# Altium footprint library Daxxn_Connectors.PcbLib: 65 footprints (part 2 of 5)
Each footprint in its own frame and in the unit in brackets; x right, y up, seen from the top. Pads: shape width x height; smd on the part's side, far side on the other; paste and mask are expansions set on the pad; w line width, h text height; cw(c..) or ccw(c..) is an arc to the next point about the centre after c.
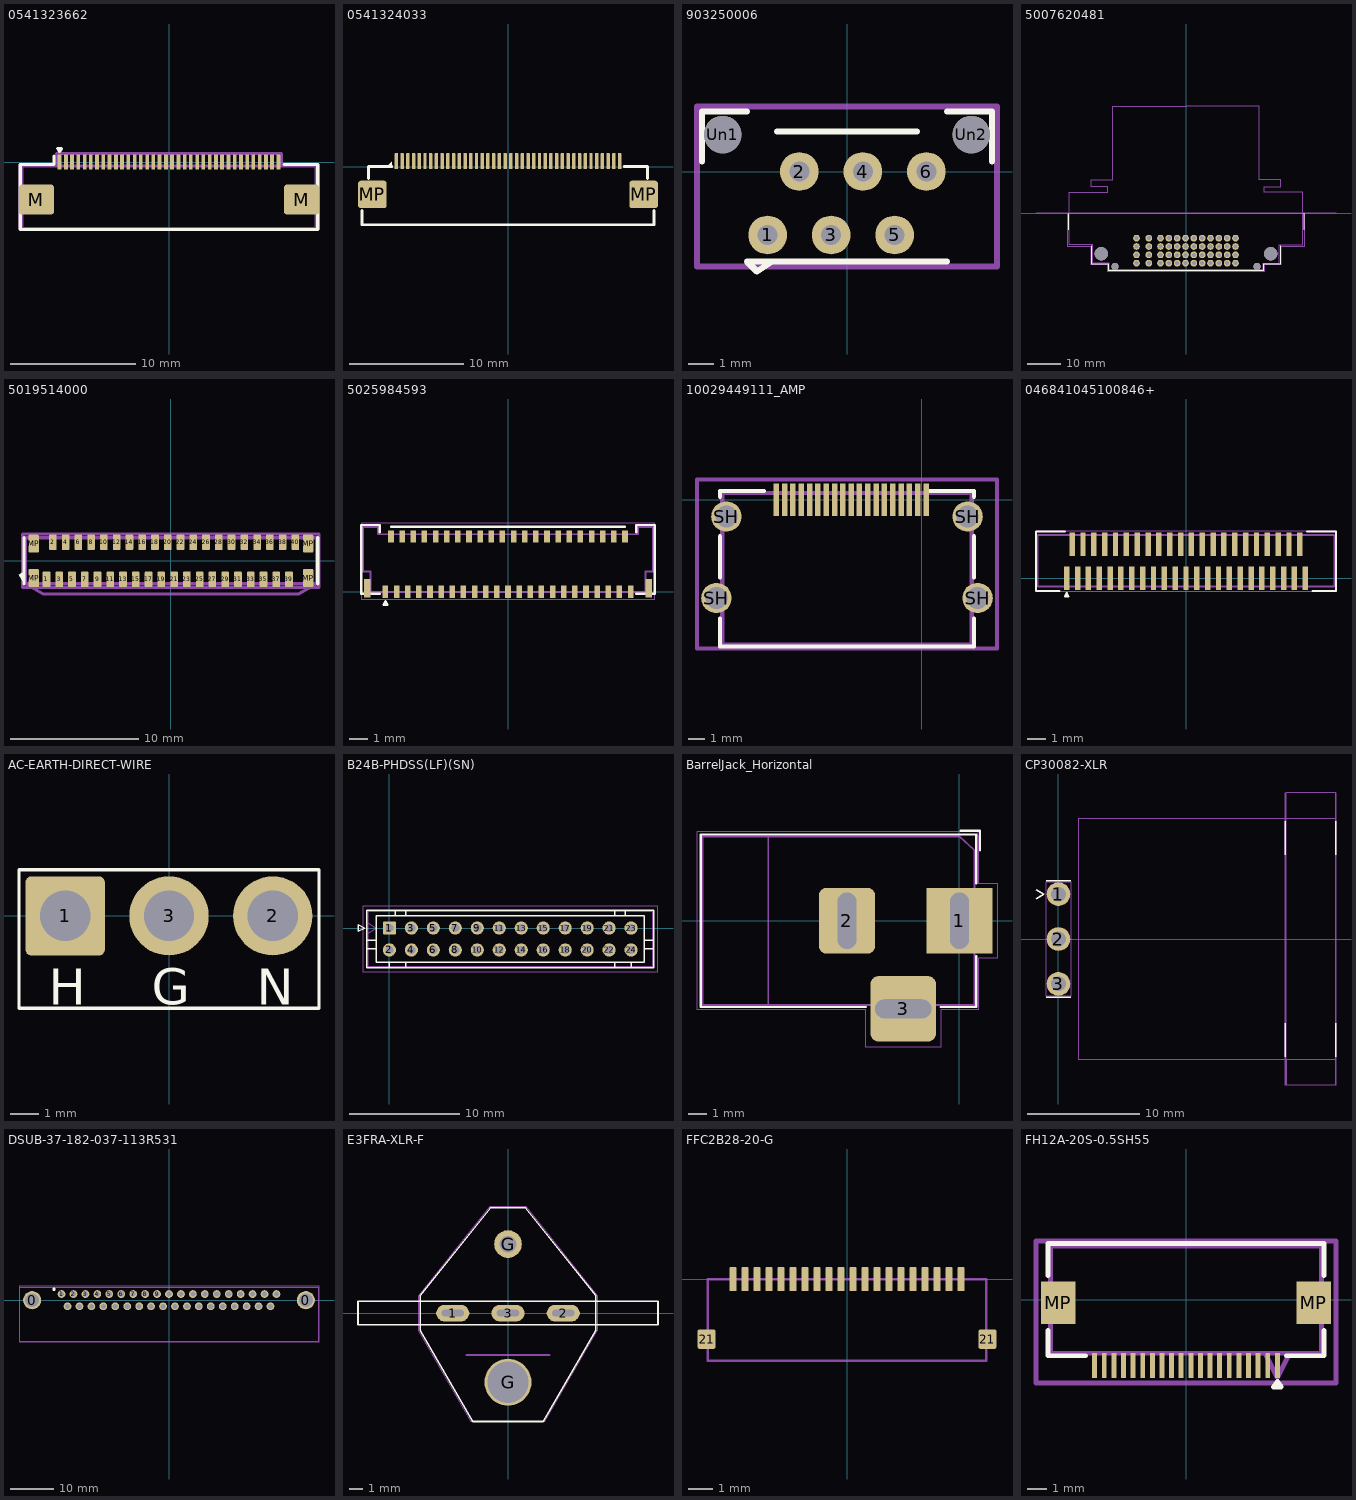
[diagram p1: the footprints below, top view; thin cyan lines are the x and y axes]

## 0541323662 [mm]
pads (38):
  rrect20% 0.3x1.2 smd: 1(-8.75,0) 2(-8.25,0) 3(-7.75,0) 4(-7.25,0) 5(-6.75,0) 6(-6.25,0) 7(-5.75,0) 8(-5.25,0) 9(-4.75,0) 10(-4.25,0) 11(-3.75,0) 12(-3.25,0) 13(-2.75,0) 14(-2.25,0) 15(-1.75,0) 16(-1.25,0) 17(-0.75,0) 18(-0.25,0) 19(0.25,0) 20(0.75,0) 21(1.25,0) 22(1.75,0) 23(2.25,0) 24(2.75,0) 25(3.25,0) 26(3.75,0) 27(4.25,0) 28(4.75,0) 29(5.25,0) 30(5.75,0) 31(6.25,0) 32(6.75,0) 33(7.25,0) 34(7.75,0) 35(8.25,0) 36(8.75,0)
  rrect20% 2.8x2.4 smd: M(-10.6,-3) M(10.6,-3)
F.SilkS:
  lines w0.254: -9.2,0.5 -9.2,-0.2 -11.9,-0.2 -11.9,-5.4 11.9,-5.4 11.9,-0.2 9.2,-0.2 ; -8.9,1.1 -8.75,0.85 -8.6,1.1 -8.9,1.1
F.CrtYd:
  lines w0.254: -11.9,-5.3 -11.9,-0.2 -9,-0.2 -9,0.7 9,0.7 9,-0.2 11.9,-0.2 11.9,-5.3 -11.9,-5.3
F.Fab:
  lines w0.254: -11.75,-5.3 -11.75,-0.3 11.75,-0.3 11.75,-5.3 -11.75,-5.3
  text "'.Designator'" at -2.073,-1.57 h0.5

## 0541324033 [mm]
pads (42):
  rrect20% 0.3x1.4 smd: 1(-9.75,0.5) 2(-9.25,0.5) 3(-8.75,0.5) 4(-8.25,0.5) 5(-7.75,0.5) 6(-7.25,0.5) 7(-6.75,0.5) 8(-6.25,0.5) 9(-5.75,0.5) 10(-5.25,0.5) 11(-4.75,0.5) 12(-4.25,0.5) 13(-3.75,0.5) 14(-3.25,0.5) 15(-2.75,0.5) 16(-2.25,0.5) 17(-1.75,0.5) 18(-1.25,0.5) 19(-0.75,0.5) 20(-0.25,0.5) 21(0.25,0.5) 22(0.75,0.5) 23(1.25,0.5) 24(1.75,0.5) 25(2.25,0.5) 26(2.75,0.5) 27(3.25,0.5) 28(3.75,0.5) 29(4.25,0.5) 30(4.75,0.5) 31(5.25,0.5) 32(5.75,0.5) 33(6.25,0.5) 34(6.75,0.5) 35(7.25,0.5) 36(7.75,0.5) 37(8.25,0.5) 38(8.75,0.5) 39(9.25,0.5) 40(9.75,0.5)
  rrect20% 2.5x2.4 smd: MP(-11.85,-2.4) MP(11.85,-2.4)
F.SilkS:
  region: -10.15,0.05 -10.55,0.05 -10.15,0.45
  lines w0.254: -12.75,-3.8 -12.75,-5.05 12.75,-5.05 12.75,-3.8 ; -12.2,-1 -12.2,0.05 -10.15,0.05 ; 10.15,0.05 12.2,0.05 12.2,-1
F.Fab:
  text "'.Designator'" at -1.037,-1.135 h0.25

## 903250006 [mm]
pads (8):
  round 1.55 hole 0.8: 1(-3.175,-2.54) 2(-1.905,0) 3(-0.635,-2.54) 4(0.635,0) 5(1.905,-2.54) 6(3.175,0)
  round 1.5 hole 1.5: Un1(-4.975,1.48) Un2(4.975,1.48)
F.SilkS:
  lines w0.254: -5.8,0.4 -5.8,2.4 -4,2.4 ; -3,-3.6 -3.6,-4 -4,-3.6 4,-3.6 ; -2.8,1.6 2.8,1.6 ; 4,2.4 5.8,2.4 5.8,0.4
F.CrtYd:
  lines w0.254: -6,-3.8 -6,2.6 6,2.6 6,-3.8 -6,-3.8
F.Fab:
  text "'.Designator'" at -4.047,5.76 h1

## 5007620481 [mm]
pads (52):
  round 2 hole 1.2: A1(14.85,-15) A2(14.85,-12.5) A3(14.85,-10) A4(14.85,-7.5) B1(12.35,-15) B2(12.35,-12.5) B3(12.35,-10) B4(12.35,-7.5) C1(9.85,-15) C2(9.85,-12.5) C3(9.85,-10) C4(9.85,-7.5) D1(7.35,-15) D2(7.35,-12.5) D3(7.35,-10) D4(7.35,-7.5) E1(4.85,-15) E2(4.85,-12.5) E3(4.85,-10) E4(4.85,-7.5) F1(2.35,-15) F2(2.35,-12.5) F3(2.35,-10) F4(2.35,-7.5) G1(-0.15,-15) G2(-0.15,-12.5) G3(-0.15,-10) G4(-0.15,-7.5) H1(-2.65,-15) H2(-2.65,-12.5) H3(-2.65,-10) H4(-2.65,-7.5) J1(-5.15,-15) J2(-5.15,-12.5) J3(-5.15,-10) J4(-5.15,-7.5) K1(-7.65,-15) K2(-7.65,-12.5) K3(-7.65,-10) K4(-7.65,-7.5) L1(-11.15,-15) L2(-11.15,-12.5) L3(-11.15,-10) L4(-11.15,-7.5) M1(-14.85,-15) M2(-14.85,-12.5) M3(-14.85,-10) M4(-14.85,-7.5)
  round 4 hole 4: Un1(-25.4,-12.15) Un4(25.4,-12.15)
  round 2.2 hole 2.2: Un2(-21.3,-16) Un3(21.3,-16)
F.SilkS:
  lines w0.254: -35.25,-5 -35.25,-0.25 ; -28.25,-9.75 -28.25,-15.25 -23.25,-15.25 -23.25,-17.25 23.25,-17.25 23.25,-15.25 28.25,-15.25 28.25,-9.75 ; 35.25,-5 35.25,-0.25
F.CrtYd:
  lines w0.254: -35.5,-10 -35.5,0 35.5,0 35.5,-10 28.5,-10 28.5,-15.5 23.5,-15.5 23.5,-17.5 -23.5,-17.5 -23.5,-15.5 -28.5,-15.5 -28.5,-10 -35.5,-10
F.Fab:
  lines w0.254: -34.95,-9.5 -34.95,6.2 -23.5,6.2 -23.5,8 -28.5,8 -28.5,10 -22,10 -22,32 0,32 22,32 22,10 28.5,10 28.5,8 23.5,8 23.5,6.2 34.95,6.2 34.95,-9.5 28,-9.5 28,-15 23,-15 23,-17 -23,-17 -23,-15 -28,-15 -28,-9.5 -34.95,-9.5
  text "'.Designator'" at -4.047,-6.34 h1
Cmts.User:
  lines w0.254: -45,0 45,0
  text "PCB EDGE" at -3.599,-1.7 h1

## 5019514000 [mm]
pads (44):
  rrect20% 0.6x1.2 smd: 1(-9.75,-1.45) 2(-9.25,1.45) 3(-8.75,-1.45) 4(-8.25,1.45) 5(-7.75,-1.45) 6(-7.25,1.45) 7(-6.75,-1.45) 8(-6.25,1.45) 9(-5.75,-1.45) 10(-5.25,1.45) 11(-4.75,-1.45) 12(-4.25,1.45) 13(-3.75,-1.45) 14(-3.25,1.45) 15(-2.75,-1.45) 16(-2.25,1.45) 17(-1.75,-1.45) 18(-1.25,1.45) 19(-0.75,-1.45) 20(-0.25,1.45) 21(0.25,-1.45) 22(0.75,1.45) 23(1.25,-1.45) 24(1.75,1.45) 25(2.25,-1.45) 26(2.75,1.45) 27(3.25,-1.45) 28(3.75,1.45) 29(4.25,-1.45) 30(4.75,1.45) 31(5.25,-1.45) 32(5.75,1.45) 33(6.25,-1.45) 34(6.75,1.45) 35(7.25,-1.45) 36(7.75,1.45) 37(8.25,-1.45) 38(8.75,1.45) 39(9.25,-1.45) 40(9.75,1.45)
  rrect20% 0.8x1.4 smd: MP(-10.75,-1.35) MP(-10.75,1.35) MP(10.75,-1.35) MP(10.75,1.35)
F.SilkS:
  region: -11.5,-1.8 -11.9,-1.1 -11.5,-0.8
  lines w0.254: -11.5,-1.8 -11.5,1.8 ; 11.5,-1.8 11.5,1.8
F.CrtYd:
  lines w0.254: -11.6,-2.1 -11.6,2.1 11.6,2.1 11.6,-2.1 -11.6,-2.1
F.Fab:
  lines w0.254: -11.4,-1.8 -10,-2.6 10,-2.6 11.4,-1.8 ; -11.4,-1.8 -11.4,1.8 11.4,1.8 11.4,-1.8 ; -11.4,-1.8 11.4,-1.8
  text "'.Designator'" at -1.037,0.015 h0.25

## 5025984593 [mm]
pads (47):
  rect 0.3x0.67 smd: 1(-6.6,0) 2(-6.3,2.98) 3(-6,0) 4(-5.7,2.98) 5(-5.4,0) 6(-5.1,2.98) 7(-4.8,0) 8(-4.5,2.98) 9(-4.2,0) 10(-3.9,2.98) 11(-3.6,0) 12(-3.3,2.98) 13(-3,0) 14(-2.7,2.98) 15(-2.4,0) 16(-2.1,2.98) 17(-1.8,0) 18(-1.5,2.98) 19(-1.2,0) 20(-0.9,2.98) 21(-0.6,0) 22(-0.3,2.98) 23(0,0) 24(0.3,2.98) 25(0.6,0) 26(0.9,2.98) 27(1.2,0) 28(1.5,2.98) 29(1.8,0) 30(2.1,2.98) 31(2.4,0) 32(2.7,2.98) 33(3,0) 34(3.3,2.98) 35(3.6,0) 36(3.9,2.98) 37(4.2,0) 38(4.5,2.98) 39(4.8,0) 40(5.1,2.98) 41(5.4,0) 42(5.7,2.98) 43(6,0) 44(6.3,2.98) 45(6.6,0)
  rect 0.35x1 smd: M(-7.575,0.2) M(7.575,0.2)
F.SilkS:
  lines w0.12: -6.9,-0.1 -7.9,-0.1 -7.9,3.6 -6.9,3.6 -6.9,3.2 ; -6.3,3.5 6.3,3.5 ; 6.9,-0.1 7.9,-0.1 7.9,3.6 6.9,3.6 6.9,3.2 ; -6.7,-0.7 -6.6,-0.5 -6.5,-0.7 -6.7,-0.7
F.CrtYd:
  lines w0.05: -7.9,-0.4 -7.9,3.7 7.9,3.7 7.9,-0.4 -7.9,-0.4
F.Fab:
  lines w0.1: -7.8,1.1 -7.4,1.1 -7.4,0 0,0 7.4,0 7.4,1.1 7.8,1.1 7.8,3.5 7,3.5 7,3.1 -7,3.1 -7,3.5 -7.8,3.5 -7.8,1.1
  text "'.Designator'" at -1.037,1.915 h0.25
Cmts.User:
  text "CABLE RELEIF" at -2.401,-2.175 h0.5

## 10029449111_AMP [mil]
pads (23):
  rect 13x77 smd: 1(9.84,0) 2(-9.84,0) 3(-29.53,0) 4(-49.21,0) 5(-68.9,0) 6(-88.58,0) 7(-108.27,0) 8(-127.95,0) 9(-147.64,0) 10(-167.32,0) 11(-187.01,0) 12(-206.69,0) 13(-226.38,0) 14(-246.06,0) 15(-265.75,0) 16(-285.43,0) 17(-305.12,0) 18(-324.8,0) 19(-344.49,0)
  round 72 hole 52: SH(-486.22,-232.28) SH(-462.6,-39.37) SH(108.27,-39.37) SH(131.89,-232.28)
F.SilkS:
  lines w10: -477.67,-280.63 -477.67,-346.99 123.33,-346.99 123.33,-280.63 ; -477.67,-183.93 -477.67,-86.1 ; -477.67,7.36 -477.67,21.01 -373.93,21.01 ; 19.6,21.01 123.33,21.01 123.33,7.36 ; 123.33,-183.93 123.33,-86.1
F.CrtYd:
  lines w10: -532.22,-351.99 -532.22,48.5 177.89,48.5 177.89,-351.99 -532.22,-351.99
F.Fab:
  lines w10: -472.67,-341.99 -472.67,16.01 118.33,16.01 118.33,-341.99 -472.67,-341.99
  text "'.Designator'" at -217.98,-60.44 h9.84

## 046841045100846+ [mm]
pads (45):
  rect 0.3x1.3 smd: 1(-6.6,0) 2(-6.3,1.9) 3(-6,0) 4(-5.7,1.9) 5(-5.4,0) 6(-5.1,1.9) 7(-4.8,0) 8(-4.5,1.9) 9(-4.2,0) 10(-3.9,1.9) 11(-3.6,0) 12(-3.3,1.9) 13(-3,0) 14(-2.7,1.9) 15(-2.4,0) 16(-2.1,1.9) 17(-1.8,0) 18(-1.5,1.9) 19(-1.2,0) 20(-0.9,1.9) 21(-0.6,0) 22(-0.3,1.9) 23(0,0) 24(0.3,1.9) 25(0.6,0) 26(0.9,1.9) 27(1.2,0) 28(1.5,1.9) 29(1.8,0) 30(2.1,1.9) 31(2.4,0) 32(2.7,1.9) 33(3,0) 34(3.3,1.9) 35(3.6,0) 36(3.9,1.9) 37(4.2,0) 38(4.5,1.9) 39(4.8,0) 40(5.1,1.9) 41(5.4,0) 42(5.7,1.9) 43(6,0) 44(6.3,1.9) 45(6.6,0)
F.SilkS:
  lines w0.12: -7,-0.7 -8.3,-0.7 -8.3,2.6 -6.7,2.6 ; 6.7,2.6 8.3,2.6 8.3,-0.7 7,-0.7 ; -6.7,-1 -6.5,-1 -6.6,-0.8 -6.7,-1
F.CrtYd:
  lines w0.05: -8.3,-0.7 -8.3,2.6 8.3,2.6 8.3,-0.7 -8.3,-0.7
F.Fab:
  lines w0.1: -8.2,-0.45 -8.2,2.4 8.2,2.4 8.2,-0.45 -8.2,-0.45
  text "'.Designator'" at -6.662,0.665 h0.25

## AC-EARTH-DIRECT-WIRE [mm]
pads (3):
  rrect15% 2.75x2.75 hole 1.75: 1(-3.6,0)
  round 2.75 hole 1.75: 2(3.6,0) 3(0,0)
F.SilkS:
  lines w0.12: -5.2,-3.2 5.2,-3.2 5.2,1.6 -5.2,1.6 -5.2,-3.2
  text "G" at -0.596,-3.075 h1.25
  text "H" at -4.167,-3.075 h1.25
  text "N" at 3.033,-3.075 h1.25
F.Fab:
  text "'.Designator'" at -0.829,-1.088 h0.2

## B24B-PHDSS(LF)(SN) [mm]
pads (24):
  rrect21% 1.2x1.2 hole 0.75: 1(0,0)
  round 1.2 hole 0.75: 2(0,-2) 3(2,0) 4(2,-2) 5(4,0) 6(4,-2) 7(6,0) 8(6,-2) 9(8,0) 10(8,-2) 11(10,0) 12(10,-2) 13(12,0) 14(12,-2) 15(14,0) 16(14,-2) 17(16,0) 18(16,-2) 19(18,0) 20(18,-2) 21(20,0) 22(20,-2) 23(22,0) 24(22,-2)
F.SilkS:
  lines w0.12: -2.06,-1.9 -1.2,-1.9 ; -2.06,-1.1 -1.2,-1.1 ; -0.03,-3.61 -0.03,-3.1 ; 0.53,1.1 0.53,1.61 ; 1.47,-3.61 1.47,-3.1 ; 1.47,1.1 1.47,1.61 ; 20.53,-3.61 20.53,-3.1 ; 20.53,1.1 20.53,1.61 ; 21.47,1.1 21.47,1.61 ; 22.03,-3.61 22.03,-3.1 ; 23.2,-1.9 24.06,-1.9 ; 23.2,-1.1 24.06,-1.1 ; -2.86,-0.3 -2.26,0 -2.86,0.3 -2.86,-0.3 ; -2.06,-3.61 -2.06,1.61 24.06,1.61 24.06,-3.61 -2.06,-3.61 ; -1.2,-3.1 23.2,-3.1 23.2,1.1 -1.2,1.1 -1.2,-3.1
F.CrtYd:
  lines w0.05: -2.45,-4 24.45,-4 24.45,2 -2.45,2 -2.45,-4
F.Fab:
  lines w0.1: -1.95,-0.5 -1.243,0 -1.95,0.5 ; -1.95,-3.5 23.95,-3.5 23.95,1.5 -1.95,1.5 -1.95,-3.5
  text "'.Designator'" at 6.953,-0.04 h1

## BarrelJack_Horizontal [mm]
pads (3):
  rect 3.5x3.5 hole 3 slot 1 at 0 deg: 1(0,0)
  rrect25% 3x3.5 hole 3 slot 1 at 0 deg: 2(-6,0)
  rrect25% 3.5x3.5 hole 1 slot 3 at 0 deg: 3(-3,-4.7)
F.SilkS:
  lines w0.12: -5,-4.6 -13.8,-4.6 -13.8,4.6 0.9,4.6 0.9,2 ; -1,-4.6 0.9,-4.6 0.9,-1.9 ; 0.05,4.8 1.1,4.8 1.1,3.75
F.CrtYd:
  lines w0.05: -14,-4.75 -14,4.75 1,4.75 1,4.5 1,2 2,2 2,-2 1,-2 1,-4.75 -1,-4.75 -1,-6.75 -5,-6.75 -5,-4.75 -14,-4.75
F.Fab:
  lines w0.1: -10.2,-4.5 -10.2,4.5 ; -0.003,4.505 0.8,3.75 0.8,-4.5 -13.7,-4.5 -13.7,4.5 0,4.5
  text "'.Designator'" at -7.047,2.11 h1

## CP30082-XLR [mm]
pads (3):
  round 2.1 hole 1.3: 1(0,4) 2(0,0) 3(0,-4)
F.SilkS:
  lines w0.12: -2,3.6 -1.3,4 -2,4.4 ; -1.1,-5.2 1.1,-5.2 ; -1.1,5.2 1.1,5.2 ; 20.2,-10.5 20.2,-7.5 ; 20.2,7.5 20.2,10.5 ; 24.7,-10.5 24.7,-7.5 ; 24.7,7.5 24.7,10.5
F.CrtYd:
  lines w0.05: -1.1,-5.1 1.1,-5.1 1.1,5.1 -1.1,5.1 -1.1,-5.1
F.Fab:
  lines w0.1: 1.75,-10.7 1.75,10.7 ; 1.75,-10.7 24.7,-10.7 ; 1.75,-10.7 1.75,10.7 ; 1.75,-10.7 20.25,-10.7 ; 1.75,10.7 24.7,10.7 ; 1.75,10.7 20.25,10.7 ; 20.25,-10.7 20.25,-13 24.7,-13 24.7,-10.7 ; 20.25,-10.7 20.25,10.7 ; 20.25,10.7 20.25,13 24.7,13 24.7,10.7 ; 24.7,-10.7 24.7,10.7
  text "'.Designator'" at -5.16,-4.047 h1
Cmts.User:
  lines w0.12: 20.2,-13 20.2,13 ; 24.7,-13 24.7,13
  text "Rear Mount" at 24.675,-2.027 h0.5
  text "Front Mount" at 20.175,-2.119 h0.5

## DSUB-37-182-037-113R531 [mm]
pads (39):
  round 4.2 hole 3.2: 0(-31.75,0) 0(31.75,0)
  round 1.8 hole 1.19: 1(-24.93,1.42) 2(-22.16,1.42) 3(-19.39,1.42) 4(-16.62,1.42) 5(-13.85,1.42) 6(-11.08,1.42) 7(-8.31,1.42) 8(-5.54,1.42) 9(-2.77,1.42) 10(0,1.42) 11(2.77,1.42) 12(5.54,1.42) 13(8.31,1.42) 14(11.08,1.42) 15(13.85,1.42) 16(16.62,1.42) 17(19.39,1.42) 18(22.16,1.42) 19(24.93,1.42) 20(-23.545,-1.42) 21(-20.775,-1.42) 22(-18.005,-1.42) 23(-15.235,-1.42) 24(-12.465,-1.42) 25(-9.695,-1.42) 26(-6.925,-1.42) 27(-4.155,-1.42) 28(-1.385,-1.42) 29(1.385,-1.42) 30(4.155,-1.42) 31(6.925,-1.42) 32(9.695,-1.42) 33(12.465,-1.42) 34(15.235,-1.42) 35(18.005,-1.42) 36(20.775,-1.42) 37(23.545,-1.42)
F.SilkS:
  circle w0: c-26.67,2.54 r0.254
  region: -26.571,2.779 -26.487,2.723 -26.431,2.639 -26.411,2.54 -26.431,2.441 -26.487,2.357 -26.571,2.301 -26.67,2.281 -26.769,2.301 -26.853,2.357 -26.909,2.441 -26.929,2.54 -26.909,2.639 -26.853,2.723 -26.769,2.779 -26.67,2.799
F.CrtYd:
  lines w0.05: -34.8,-9.6 -34.8,3.2 34.8,3.2 34.8,-9.6 -34.8,-9.6
F.Fab:
  lines w0.1: -34.66,-9.5 -34.66,3.01 34.66,3.01 34.66,-9.5
  lines w0.12: -34.66,-9.5 34.66,-9.5
  text "'.Designator'" at -4.047,6.26 h1

## E3FRA-XLR-F [mm]
pads (5):
  rrect100% 2.4x1.2 hole 0.48 slot 1.6 at 0 deg: 1(-4,0) 2(4,0) 3(0,0)
  round 3.4 hole 3: G(0,-5)
  round 2 hole 1.2: G(0,5)
F.SilkS:
  lines w0.12: -10.86,-0.85 -10.86,0.85 10.86,0.85 10.86,-0.85 -10.86,-0.85 ; -6.35,-1.27 -6.35,1.27 -1.27,7.62 1.27,7.62 6.35,1.27 6.35,-1.27 2.54,-7.85 -2.54,-7.85 -6.35,-1.27
F.CrtYd:
  lines w0.05: -6.477,-1.27 -2.667,-7.874 2.667,-7.874 6.477,-1.27 6.477,1.27 1.27,7.747 1.143,7.747 -1.27,7.747 -6.477,1.27 -6.477,-1.27
F.Fab:
  lines w0.12: -3,-3.03 3,-3.03
  text "'.Designator'" at -4.047,10.59 h1

## FFC2B28-20-G [mm]
pads (22):
  rrect20% 0.3x1 smd: 1(-4.75,0) 2(-4.25,0) 3(-3.75,0) 4(-3.25,0) 5(-2.75,0) 6(-2.25,0) 7(-1.75,0) 8(-1.25,0) 9(-0.75,0) 10(-0.25,0) 11(0.25,0) 12(0.75,0) 13(1.25,0) 14(1.75,0) 15(2.25,0) 16(2.75,0) 17(3.25,0) 18(3.75,0) 19(4.25,0) 20(4.75,0)
  rrect20% 0.75x0.8 smd: 21(-5.85,-2.5) 21(5.85,-2.5)
F.Fab:
  lines w0.1: -5.8,-3.4 -5.8,0 5.8,0 5.8,-3.4 -5.8,-3.4
  text "'.Designator'" at -1.037,-2.035 h0.25

## FH12A-20S-0.5SH55 [mil]
pads (22):
  rect 10x51 smd: 1(187.01,-135) 2(167.32,-135) 3(147.64,-135) 4(127.95,-135) 5(108.27,-135) 6(88.58,-135) 7(68.9,-135) 8(49.21,-135) 9(29.53,-135) 10(9.84,-135) 11(-9.84,-135) 12(-29.53,-135) 13(-49.21,-135) 14(-68.9,-135) 15(-88.58,-135) 16(-108.27,-135) 17(-127.95,-135) 18(-147.64,-135) 19(-167.32,-135) 20(-187.01,-135)
  rect 71x87 smd: MP(-261.5,-7) MP(261.5,-7)
F.SilkS:
  lines w10: -282.5,-63.6 -282.5,-115 -205.11,-115 ; -282.5,49.6 -282.5,115 282.5,115 282.5,49.6 ; 205.11,-115 282.5,-115 282.5,-63.6 ; 179.13,-179.13 194.88,-179.13 187.01,-167.32 179.13,-179.13
F.CrtYd:
  lines w10: -307,-170.5 -307,-120 -307,120 307,120 307,-120 307,-170.5 -307,-170.5
F.Fab:
  lines w10: 162.01,-110 187.01,-160 212.01,-110 ; -277.5,-110 -277.5,110 277.5,110 277.5,-110 -277.5,-110